# EAGLE library part ICM-42605 (library RoboJackets-Sensors)
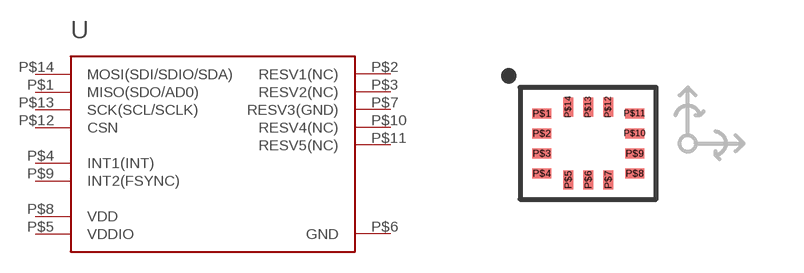
[diagram p5: symbol with the pads of ICM-442605-2530091; footprint ICM-442605-2530091]

Designator prefix U

## ICM-42605 (DIGIKEY_LINK: https://www.digikey.com/product-detail/en/tdk-invensense/ICM-42605/1428-1152-1-ND/9953675; DIGIKEY_PN: 1428-1152-1-ND; MANUFACTURER: InvenSense; MPN: ICM-42605)  [ICM-442605-2530091]
P$1  MISO(SDO/AD0)
P$2  RESV1(NC)
P$3  RESV2(NC)
P$4  INT1(INT)
P$5  VDDIO
P$6  GND
P$7  RESV3(GND)
P$8  VDD
P$9  INT2(FSYNC)
P$10  RESV4(NC)
P$11  RESV5(NC)
P$12  CSN
P$13  SCK(SCL/SCLK)
P$14  MOSI(SDI/SDIO/SDA)

## Footprint ICM-442605-2530091 (pad centres in mm)
smd 0.475 x 0.25: P$1 -1.163,0.75; P$2 -1.163,0.25; P$3 -1.163,-0.25; P$4 -1.163,-0.75; P$8 1.163,-0.75; P$9 1.163,-0.25; P$10 1.163,0.25; P$11 1.163,0.75
smd 0.25 x 0.475: P$5 -0.5,-0.912; P$6 0,-0.912; P$7 0.5,-0.912; P$12 0.5,0.912; P$13 0,0.912; P$14 -0.5,0.912